# Altium schematic symbol library SHT21.SchLib: 1 symbol
Pins are listed as number, name and electrical type; pins without a type are passive.

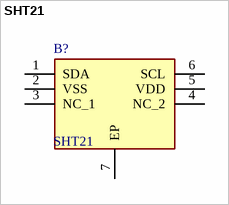
[diagram p0: symbol SHT21]

## SHT21
designator B?
Sensor Humidity & Temp 2%RH I2C DFN6 SHT21, 8; Manufacturer_Name: Sensirion; Geometry.Height: 1.1mm; Mouser Part Number: 403-SHT21; Mouser Price/Stock: https://www.mouser.co.uk/ProductDetail/Sensirion/SHT21?qs=wWC4CIiyLaNbiIJO6bf9AA%3D%3D; Manufacturer_Part_Number: SHT21; Datasheet Link: https://datasheet.datasheetarchive.com/originals/distributors/DKDS-37/728928.pdf
footprint SON100P300X300X110-7N-D
pins: 1 SDA, 2 VSS, 3 NC_1, 4 NC_2, 5 VDD, 6 SCL, 7 EP